# Altium footprint library resistor-power.PCBLIB: 89 footprints (part 6 of 6)
Each footprint in its own frame and in the unit in brackets; x right, y up, seen from the top. Pads: shape width x height; smd on the part's side, far side on the other; paste and mask are expansions set on the pad; w line width, h text height; cw(c..) or ccw(c..) is an arc to the next point about the centre after c.
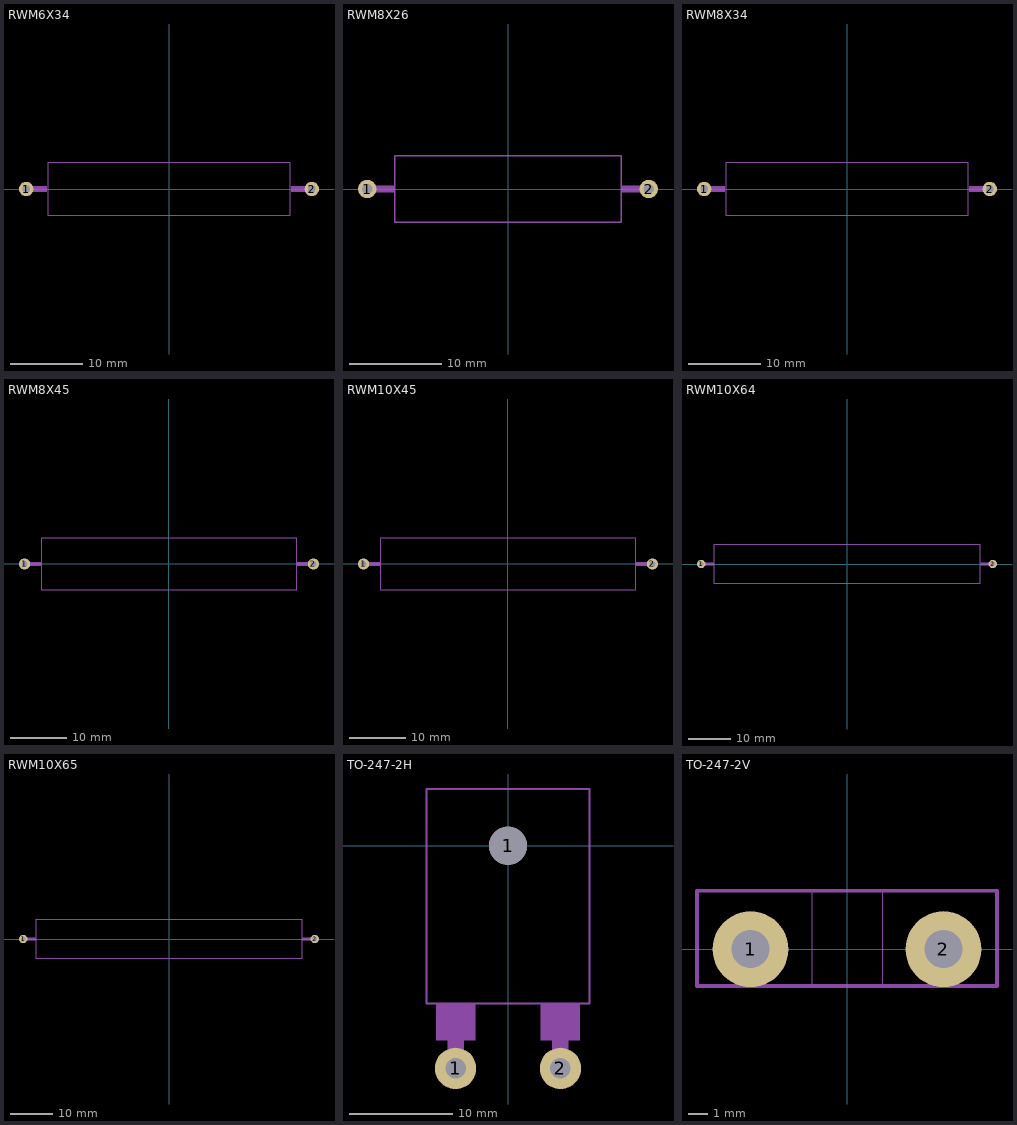
[diagram p5: the footprints below, top view; thin cyan lines are the x and y axes]

## RWM6X34 [mm]
pads (2):
  round 2 hole 1.1: 1(-19.74,0) 2(19.74,0)
Mechanical 2:
  rectangle: -18.47,-0.4 -16.855,0.4
  rectangle: 16.855,-0.4 18.47,0.4
  lines w0.152: -16.78,-3.625 16.78,-3.625 16.78,3.625 -16.78,3.625 -16.78,-3.625
Mechanical 18:
  lines w0.8: -19.74,0 -18.47,0 ; 18.47,0 19.74,0

## RWM8X26 [mm]
pads (2):
  round 2 hole 1.1: 1(-15.24,0) 2(15.24,0)
Mechanical 2:
  rectangle: -13.97,-0.4 -12.355,0.4
  rectangle: 12.355,-0.4 13.97,0.4
  lines w0.152: -12.28,-3.625 12.28,-3.625 12.28,3.625 -12.28,3.625 -12.28,-3.625
Mechanical 18:
  lines w0.8: -15.24,0 -13.97,0 ; 13.97,0 15.24,0

## RWM8X34 [mm]
pads (2):
  round 2 hole 1.1: 1(-19.74,0) 2(19.74,0)
Mechanical 2:
  rectangle: -18.47,-0.4 -16.855,0.4
  rectangle: 16.855,-0.4 18.47,0.4
  lines w0.152: -16.78,-3.625 16.78,-3.625 16.78,3.625 -16.78,3.625 -16.78,-3.625
Mechanical 18:
  lines w0.8: -19.74,0 -18.47,0 ; 18.47,0 19.74,0

## RWM8X45 [mm]
pads (2):
  round 2 hole 1.1: 1(-25.74,0) 2(25.74,0)
Mechanical 2:
  rectangle: -24.47,-0.4 -22.855,0.4
  rectangle: 22.855,-0.4 24.47,0.4
  lines w0.152: -22.78,-4.625 22.78,-4.625 22.78,4.625 -22.78,4.625 -22.78,-4.625
Mechanical 18:
  lines w0.8: -25.74,0 -24.47,0 ; 24.47,0 25.74,0

## RWM10X45 [mm]
pads (2):
  round 2 hole 1.1: 1(-25.74,0) 2(25.74,0)
Mechanical 2:
  rectangle: -24.47,-0.4 -22.855,0.4
  rectangle: 22.855,-0.4 24.47,0.4
  lines w0.152: -22.78,-4.625 22.78,-4.625 22.78,4.625 -22.78,4.625 -22.78,-4.625
Mechanical 18:
  lines w0.8: -25.74,0 -24.47,0 ; 24.47,0 25.74,0

## RWM10X64 [mm]
pads (2):
  round 2 hole 1.1: 1(-34.74,0) 2(34.74,0)
Mechanical 2:
  rectangle: -33.47,-0.4 -31.855,0.4
  rectangle: 31.855,-0.4 33.47,0.4
  lines w0.152: -31.78,-4.625 31.78,-4.625 31.78,4.625 -31.78,4.625 -31.78,-4.625
Mechanical 18:
  lines w0.8: -34.74,0 -33.47,0 ; 33.47,0 34.74,0

## RWM10X65 [mm]
pads (2):
  round 2 hole 1.1: 1(-34.74,0) 2(34.74,0)
Mechanical 2:
  rectangle: -33.47,-0.4 -31.855,0.4
  rectangle: 31.855,-0.4 33.47,0.4
  lines w0.152: -31.78,-4.625 31.78,-4.625 31.78,4.625 -31.78,4.625 -31.78,-4.625
Mechanical 18:
  lines w0.8: -34.74,0 -33.47,0 ; 33.47,0 34.74,0

## TO-247-2H [mm]
pads (3):
  round 4 hole 2: 1(-5.08,-21.59) 2(5.08,-21.59)
  round 3.7 hole 3.7: 1(0,0)
Mechanical 2:
  lines w0.203: -7.9,-15.3 -7.9,5.5 7.9,5.5 7.9,-15.3 -7.9,-15.3
Mechanical 18:
  rectangle: -7,-18.875 -3.175,-15.3
  rectangle: 3.16,-18.875 6.985,-15.3
  lines w1.6: -5.08,-21.59 -5.08,-18.6 ; 5.08,-21.59 5.08,-18.6

## TO-247-2V [mm]
pads (2):
  round 4 hole 2: 1(-5.08,0) 2(5.08,0)
Mechanical 2:
  lines w0.01: -1.85,-1.875 -1.85,3 ; 1.85,-1.875 1.85,3.05
  lines w0.203: -6.705,-1.935 -7.9,-1.935 -7.9,3.075 7.9,3.075 7.9,-1.935 6.705,-1.935 ; -3.455,-1.935 3.455,-1.935
Mechanical 18:
  lines w0.203: -7.9,-1.935 7.9,-1.935